# Altium integrated library Altium_WCAP-CSGP (rev19a).IntLib: 938 symbols (part 14 of 16)
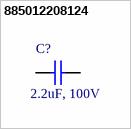
[diagram p40: symbol 885012208124]

## 885012208124
designator C?, comment 2.2uF, 100V
WCAP-CSGP General Purpose Ceramic Capacitors, size 1206, 2.2uF, +/-10%, 100VDC; Part Number: 885012208124; Isolation Resistance: >=0.05GOhm; Ceramic Type: X7R; Technical Reference: X7R1206225K100DFCT10000; ComponentLink1Description: Manufacturer; ComponentLink1URL: http://www.we-online.de; ComponentLink2Description: Datasheet; ComponentLink2URL: https://katalog.we-online.com/pbs/datasheet/885012208124.pdf; Operating Temperature: -55 to +125degC; Packaging: Tape and Reel; Publisher: Wurth Elektronik; Rated Voltage: 100VDC; Published Date: August 2019; Capacitance Tolerance: +/-10%; Dissipation Factor: =<5%; Height: 1.6mm +/-0.30mm; Mounting Technology: SMD; Size: 1206; Capacitance: 2.2uF
footprint WCAP-CSGP_1206_H=1.6mm
pins: 1, 2


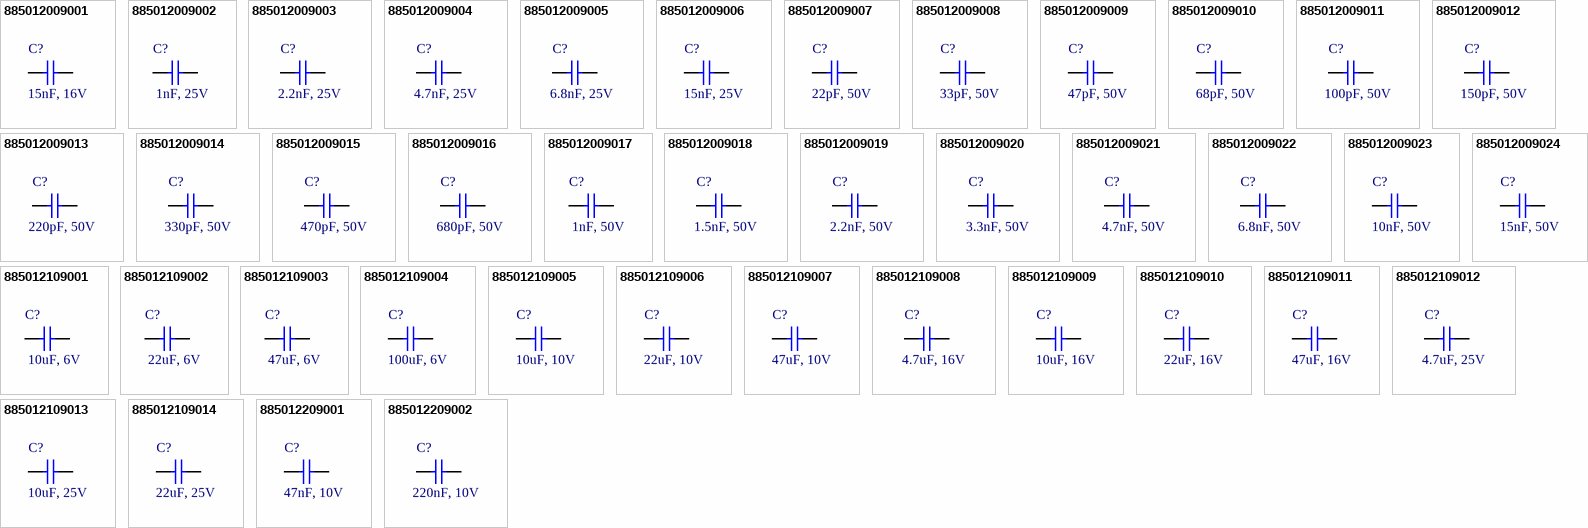
[diagram p23: symbols 885012009001 to 885012209002]

## 885012009001
designator C?, comment 15nF, 16V
WCAP-CSGP General Purpose Ceramic Capacitors, size 1210, 15nF, +/-5%, 16VDC; Part Number: 885012009001; Isolation Resistance: >=10GOhm; Ceramic Type: NP0; Dissipation Factor: Q>=1000; Technical Reference: NP01210153J016DFCT10000; ComponentLink1Description: Manufacturer; ComponentLink1URL: http://www.we-online.de; ComponentLink2Description: Datasheet; ComponentLink2URL: https://katalog.we-online.com/pbs/datasheet/885012009001.pdf; Operating Temperature: -55 to +125degC; Packaging: Tape and Reel; Publisher: Wurth Elektronik; Rated Voltage: 16VDC; Published Date: August 2019; Capacitance Tolerance: +/-5%; Height: 0.95mm +/-0.10mm; Mounting Technology: SMD; Size: 1210; Capacitance: 15nF
footprint WCAP-CSGP_1210_H=0.95mm
pins: 1, 2

## 885012009002
designator C?, comment 1nF, 25V
WCAP-CSGP General Purpose Ceramic Capacitors, size 1210, 1nF, +/-5%, 25VDC; Part Number: 885012009002; Isolation Resistance: >=10GOhm; Ceramic Type: NP0; Dissipation Factor: Q>=1000; Technical Reference: NP01210102J025DFCT10000; ComponentLink1Description: Manufacturer; ComponentLink1URL: http://www.we-online.de; ComponentLink2Description: Datasheet; ComponentLink2URL: https://katalog.we-online.com/pbs/datasheet/885012009002.pdf; Operating Temperature: -55 to +125degC; Packaging: Tape and Reel; Publisher: Wurth Elektronik; Rated Voltage: 25VDC; Published Date: August 2019; Capacitance Tolerance: +/-5%; Height: 0.95mm +/-0.10mm; Mounting Technology: SMD; Size: 1210; Capacitance: 1nF
footprint WCAP-CSGP_1210_H=0.95mm
pins: 1, 2

## 885012009003
designator C?, comment 2.2nF, 25V
WCAP-CSGP General Purpose Ceramic Capacitors, size 1210, 2.2nF, +/-5%, 25VDC; Part Number: 885012009003; Isolation Resistance: >=10GOhm; Ceramic Type: NP0; Dissipation Factor: Q>=1000; Technical Reference: NP01210222J025DFCT10000; ComponentLink1Description: Manufacturer; ComponentLink1URL: http://www.we-online.de; ComponentLink2Description: Datasheet; ComponentLink2URL: https://katalog.we-online.com/pbs/datasheet/885012009003.pdf; Operating Temperature: -55 to +125degC; Packaging: Tape and Reel; Publisher: Wurth Elektronik; Rated Voltage: 25VDC; Published Date: August 2019; Capacitance Tolerance: +/-5%; Height: 0.95mm +/-0.10mm; Mounting Technology: SMD; Size: 1210; Capacitance: 2.2nF
footprint WCAP-CSGP_1210_H=0.95mm
pins: 1, 2

## 885012009004
designator C?, comment 4.7nF, 25V
WCAP-CSGP General Purpose Ceramic Capacitors, size 1210, 4.7nF, +/-5%, 25VDC; Part Number: 885012009004; Isolation Resistance: >=10GOhm; Ceramic Type: NP0; Dissipation Factor: Q>=1000; Technical Reference: NP01210472J025DFCT10000; ComponentLink1Description: Manufacturer; ComponentLink1URL: http://www.we-online.de; ComponentLink2Description: Datasheet; ComponentLink2URL: https://katalog.we-online.com/pbs/datasheet/885012009004.pdf; Operating Temperature: -55 to +125degC; Packaging: Tape and Reel; Publisher: Wurth Elektronik; Rated Voltage: 25VDC; Published Date: August 2019; Capacitance Tolerance: +/-5%; Height: 0.95mm +/-0.10mm; Mounting Technology: SMD; Size: 1210; Capacitance: 4.7nF
footprint WCAP-CSGP_1210_H=0.95mm
pins: 1, 2

## 885012009005
designator C?, comment 6.8nF, 25V
WCAP-CSGP General Purpose Ceramic Capacitors, size 1210, 6.8nF, +/-5%, 25VDC; Part Number: 885012009005; Isolation Resistance: >=10GOhm; Ceramic Type: NP0; Dissipation Factor: Q>=1000; Technical Reference: NP01210682J025DFCT10000; ComponentLink1Description: Manufacturer; ComponentLink1URL: http://www.we-online.de; ComponentLink2Description: Datasheet; ComponentLink2URL: https://katalog.we-online.com/pbs/datasheet/885012009005.pdf; Operating Temperature: -55 to +125degC; Packaging: Tape and Reel; Publisher: Wurth Elektronik; Rated Voltage: 25VDC; Published Date: August 2019; Capacitance Tolerance: +/-5%; Height: 0.95mm +/-0.10mm; Mounting Technology: SMD; Size: 1210; Capacitance: 6.8nF
footprint WCAP-CSGP_1210_H=0.95mm
pins: 1, 2

## 885012009006
designator C?, comment 15nF, 25V
WCAP-CSGP General Purpose Ceramic Capacitors, size 1210, 15nF, +/-5%, 25VDC; Part Number: 885012009006; Isolation Resistance: >=10GOhm; Ceramic Type: NP0; Dissipation Factor: Q>=1000; Technical Reference: NP01210153J025DFCT10000; ComponentLink1Description: Manufacturer; ComponentLink1URL: http://www.we-online.de; ComponentLink2Description: Datasheet; ComponentLink2URL: https://katalog.we-online.com/pbs/datasheet/885012009006.pdf; Operating Temperature: -55 to +125degC; Packaging: Tape and Reel; Publisher: Wurth Elektronik; Rated Voltage: 25VDC; Published Date: August 2019; Capacitance Tolerance: +/-5%; Height: 1.25mm +/-0.10mm; Mounting Technology: SMD; Size: 1210; Capacitance: 15nF
footprint WCAP-CSGP_1210_H=1.25mm
pins: 1, 2

## 885012009007
designator C?, comment 22pF, 50V
WCAP-CSGP General Purpose Ceramic Capacitors, size 1210, 22pF, +/-5%, 50VDC; Part Number: 885012009007; Isolation Resistance: >=10GOhm; Ceramic Type: NP0; Dissipation Factor: Q>=400+20C; Technical Reference: NP01210220J050DFCT10000; ComponentLink1Description: Manufacturer; ComponentLink1URL: http://www.we-online.de; ComponentLink2Description: Datasheet; ComponentLink2URL: https://katalog.we-online.com/pbs/datasheet/885012009007.pdf; Operating Temperature: -55 to +125degC; Packaging: Tape and Reel; Publisher: Wurth Elektronik; Rated Voltage: 50VDC; Published Date: August 2019; Capacitance Tolerance: +/-5%; Height: 0.95mm +/-0.10mm; Mounting Technology: SMD; Size: 1210; Capacitance: 22pF
footprint WCAP-CSGP_1210_H=0.95mm
pins: 1, 2

## 885012009008
designator C?, comment 33pF, 50V
WCAP-CSGP General Purpose Ceramic Capacitors, size 1210, 33pF, +/-5%, 50VDC; Part Number: 885012009008; Isolation Resistance: >=10GOhm; Ceramic Type: NP0; Dissipation Factor: Q>=1000; Technical Reference: NP01210330J050DFCT10000; ComponentLink1Description: Manufacturer; ComponentLink1URL: http://www.we-online.de; ComponentLink2Description: Datasheet; ComponentLink2URL: https://katalog.we-online.com/pbs/datasheet/885012009008.pdf; Operating Temperature: -55 to +125degC; Packaging: Tape and Reel; Publisher: Wurth Elektronik; Rated Voltage: 50VDC; Published Date: August 2019; Capacitance Tolerance: +/-5%; Height: 0.95mm +/-0.10mm; Mounting Technology: SMD; Size: 1210; Capacitance: 33pF
footprint WCAP-CSGP_1210_H=0.95mm
pins: 1, 2

## 885012009009
designator C?, comment 47pF, 50V
WCAP-CSGP General Purpose Ceramic Capacitors, size 1210, 47pF, +/-5%, 50VDC; Part Number: 885012009009; Isolation Resistance: >=10GOhm; Ceramic Type: NP0; Dissipation Factor: Q>=1000; Technical Reference: NP01210470J050DFCT10000; ComponentLink1Description: Manufacturer; ComponentLink1URL: http://www.we-online.de; ComponentLink2Description: Datasheet; ComponentLink2URL: https://katalog.we-online.com/pbs/datasheet/885012009009.pdf; Operating Temperature: -55 to +125degC; Packaging: Tape and Reel; Publisher: Wurth Elektronik; Rated Voltage: 50VDC; Published Date: August 2019; Capacitance Tolerance: +/-5%; Height: 0.95mm +/-0.10mm; Mounting Technology: SMD; Size: 1210; Capacitance: 47pF
footprint WCAP-CSGP_1210_H=0.95mm
pins: 1, 2

## 885012009010
designator C?, comment 68pF, 50V
WCAP-CSGP General Purpose Ceramic Capacitors, size 1210, 68pF, +/-5%, 50VDC; Part Number: 885012009010; Isolation Resistance: >=10GOhm; Ceramic Type: NP0; Dissipation Factor: Q>=1000; Technical Reference: NP01210680J050DFCT10000; ComponentLink1Description: Manufacturer; ComponentLink1URL: http://www.we-online.de; ComponentLink2Description: Datasheet; ComponentLink2URL: https://katalog.we-online.com/pbs/datasheet/885012009010.pdf; Operating Temperature: -55 to +125degC; Packaging: Tape and Reel; Publisher: Wurth Elektronik; Rated Voltage: 50VDC; Published Date: August 2019; Capacitance Tolerance: +/-5%; Height: 0.95mm +/-0.10mm; Mounting Technology: SMD; Size: 1210; Capacitance: 68pF
footprint WCAP-CSGP_1210_H=0.95mm
pins: 1, 2

## 885012009011
designator C?, comment 100pF, 50V
WCAP-CSGP General Purpose Ceramic Capacitors, size 1210, 100pF, +/-5%, 50VDC; Part Number: 885012009011; Isolation Resistance: >=10GOhm; Ceramic Type: NP0; Dissipation Factor: Q>=1000; Technical Reference: NP01210101J050DFCT10000; ComponentLink1Description: Manufacturer; ComponentLink1URL: http://www.we-online.de; ComponentLink2Description: Datasheet; ComponentLink2URL: https://katalog.we-online.com/pbs/datasheet/885012009011.pdf; Operating Temperature: -55 to +125degC; Packaging: Tape and Reel; Publisher: Wurth Elektronik; Rated Voltage: 50VDC; Published Date: August 2019; Capacitance Tolerance: +/-5%; Height: 0.95mm +/-0.10mm; Mounting Technology: SMD; Size: 1210; Capacitance: 100pF
footprint WCAP-CSGP_1210_H=0.95mm
pins: 1, 2

## 885012009012
designator C?, comment 150pF, 50V
WCAP-CSGP General Purpose Ceramic Capacitors, size 1210, 150pF, +/-5%, 50VDC; Part Number: 885012009012; Isolation Resistance: >=10GOhm; Ceramic Type: NP0; Dissipation Factor: Q>=1000; Technical Reference: NP01210151J050DFCT10000; ComponentLink1Description: Manufacturer; ComponentLink1URL: http://www.we-online.de; ComponentLink2Description: Datasheet; ComponentLink2URL: https://katalog.we-online.com/pbs/datasheet/885012009012.pdf; Operating Temperature: -55 to +125degC; Packaging: Tape and Reel; Publisher: Wurth Elektronik; Rated Voltage: 50VDC; Published Date: August 2019; Capacitance Tolerance: +/-5%; Height: 0.95mm +/-0.10mm; Mounting Technology: SMD; Size: 1210; Capacitance: 150pF
footprint WCAP-CSGP_1210_H=0.95mm
pins: 1, 2

## 885012009013
designator C?, comment 220pF, 50V
WCAP-CSGP General Purpose Ceramic Capacitors, size 1210, 220pF, +/-5%, 50VDC; Part Number: 885012009013; Isolation Resistance: >=10GOhm; Ceramic Type: NP0; Dissipation Factor: Q>=1000; Technical Reference: NP01210221J050DFCT10000; ComponentLink1Description: Manufacturer; ComponentLink1URL: http://www.we-online.de; ComponentLink2Description: Datasheet; ComponentLink2URL: https://katalog.we-online.com/pbs/datasheet/885012009013.pdf; Operating Temperature: -55 to +125degC; Packaging: Tape and Reel; Publisher: Wurth Elektronik; Rated Voltage: 50VDC; Published Date: August 2019; Capacitance Tolerance: +/-5%; Height: 0.95mm +/-0.10mm; Mounting Technology: SMD; Size: 1210; Capacitance: 220pF
footprint WCAP-CSGP_1210_H=0.95mm
pins: 1, 2

## 885012009014
designator C?, comment 330pF, 50V
WCAP-CSGP General Purpose Ceramic Capacitors, size 1210, 330pF, +/-5%, 50VDC; Part Number: 885012009014; Isolation Resistance: >=10GOhm; Ceramic Type: NP0; Dissipation Factor: Q>=1000; Technical Reference: NP01210331J050DFCT10000; ComponentLink1Description: Manufacturer; ComponentLink1URL: http://www.we-online.de; ComponentLink2Description: Datasheet; ComponentLink2URL: https://katalog.we-online.com/pbs/datasheet/885012009014.pdf; Operating Temperature: -55 to +125degC; Packaging: Tape and Reel; Publisher: Wurth Elektronik; Rated Voltage: 50VDC; Published Date: August 2019; Capacitance Tolerance: +/-5%; Height: 0.95mm +/-0.10mm; Mounting Technology: SMD; Size: 1210; Capacitance: 330pF
footprint WCAP-CSGP_1210_H=0.95mm
pins: 1, 2

## 885012009015
designator C?, comment 470pF, 50V
WCAP-CSGP General Purpose Ceramic Capacitors, size 1210, 470pF, +/-5%, 50VDC; Part Number: 885012009015; Isolation Resistance: >=10GOhm; Ceramic Type: NP0; Dissipation Factor: Q>=1000; Technical Reference: NP01210471J050DFCT10000; ComponentLink1Description: Manufacturer; ComponentLink1URL: http://www.we-online.de; ComponentLink2Description: Datasheet; ComponentLink2URL: https://katalog.we-online.com/pbs/datasheet/885012009015.pdf; Operating Temperature: -55 to +125degC; Packaging: Tape and Reel; Publisher: Wurth Elektronik; Rated Voltage: 50VDC; Published Date: August 2019; Capacitance Tolerance: +/-5%; Height: 0.95mm +/-0.10mm; Mounting Technology: SMD; Size: 1210; Capacitance: 470pF
footprint WCAP-CSGP_1210_H=0.95mm
pins: 1, 2

## 885012009016
designator C?, comment 680pF, 50V
WCAP-CSGP General Purpose Ceramic Capacitors, size 1210, 680pF, +/-5%, 50VDC; Part Number: 885012009016; Isolation Resistance: >=10GOhm; Ceramic Type: NP0; Dissipation Factor: Q>=1000; Technical Reference: NP01210681J050DFCT10000; ComponentLink1Description: Manufacturer; ComponentLink1URL: http://www.we-online.de; ComponentLink2Description: Datasheet; ComponentLink2URL: https://katalog.we-online.com/pbs/datasheet/885012009016.pdf; Operating Temperature: -55 to +125degC; Packaging: Tape and Reel; Publisher: Wurth Elektronik; Rated Voltage: 50VDC; Published Date: August 2019; Capacitance Tolerance: +/-5%; Height: 0.95mm +/-0.10mm; Mounting Technology: SMD; Size: 1210; Capacitance: 680pF
footprint WCAP-CSGP_1210_H=0.95mm
pins: 1, 2

## 885012009017
designator C?, comment 1nF, 50V
WCAP-CSGP General Purpose Ceramic Capacitors, size 1210, 1nF, +/-5%, 50VDC; Part Number: 885012009017; Isolation Resistance: >=10GOhm; Ceramic Type: NP0; Dissipation Factor: Q>=1000; Technical Reference: NP01210102J050DFCT10000; ComponentLink1Description: Manufacturer; ComponentLink1URL: http://www.we-online.de; ComponentLink2Description: Datasheet; ComponentLink2URL: https://katalog.we-online.com/pbs/datasheet/885012009017.pdf; Operating Temperature: -55 to +125degC; Packaging: Tape and Reel; Publisher: Wurth Elektronik; Rated Voltage: 50VDC; Published Date: August 2019; Capacitance Tolerance: +/-5%; Height: 0.95mm +/-0.10mm; Mounting Technology: SMD; Size: 1210; Capacitance: 1nF
footprint WCAP-CSGP_1210_H=0.95mm
pins: 1, 2

## 885012009018
designator C?, comment 1.5nF, 50V
WCAP-CSGP General Purpose Ceramic Capacitors, size 1210, 1.5nF, +/-5%, 50VDC; Part Number: 885012009018; Isolation Resistance: >=10GOhm; Ceramic Type: NP0; Dissipation Factor: Q>=1000; Technical Reference: NP01210152J050DFCT10000; ComponentLink1Description: Manufacturer; ComponentLink1URL: http://www.we-online.de; ComponentLink2Description: Datasheet; ComponentLink2URL: https://katalog.we-online.com/pbs/datasheet/885012009018.pdf; Operating Temperature: -55 to +125degC; Packaging: Tape and Reel; Publisher: Wurth Elektronik; Rated Voltage: 50VDC; Published Date: August 2019; Capacitance Tolerance: +/-5%; Height: 0.95mm +/-0.10mm; Mounting Technology: SMD; Size: 1210; Capacitance: 1.5nF
footprint WCAP-CSGP_1210_H=0.95mm
pins: 1, 2

## 885012009019
designator C?, comment 2.2nF, 50V
WCAP-CSGP General Purpose Ceramic Capacitors, size 1210, 2.2nF, +/-5%, 50VDC; Part Number: 885012009019; Isolation Resistance: >=10GOhm; Ceramic Type: NP0; Dissipation Factor: Q>=1000; Technical Reference: NP01210222J050DFCT10000; ComponentLink1Description: Manufacturer; ComponentLink1URL: http://www.we-online.de; ComponentLink2Description: Datasheet; ComponentLink2URL: https://katalog.we-online.com/pbs/datasheet/885012009019.pdf; Operating Temperature: -55 to +125degC; Packaging: Tape and Reel; Publisher: Wurth Elektronik; Rated Voltage: 50VDC; Published Date: August 2019; Capacitance Tolerance: +/-5%; Height: 0.95mm +/-0.10mm; Mounting Technology: SMD; Size: 1210; Capacitance: 2.2nF
footprint WCAP-CSGP_1210_H=0.95mm
pins: 1, 2

## 885012009020
designator C?, comment 3.3nF, 50V
WCAP-CSGP General Purpose Ceramic Capacitors, size 1210, 3.3nF, +/-5%, 50VDC; Part Number: 885012009020; Isolation Resistance: >=10GOhm; Ceramic Type: NP0; Dissipation Factor: Q>=1000; Technical Reference: NP01210332J050DFCT10000; ComponentLink1Description: Manufacturer; ComponentLink1URL: http://www.we-online.de; ComponentLink2Description: Datasheet; ComponentLink2URL: https://katalog.we-online.com/pbs/datasheet/885012009020.pdf; Operating Temperature: -55 to +125degC; Packaging: Tape and Reel; Publisher: Wurth Elektronik; Rated Voltage: 50VDC; Published Date: August 2019; Capacitance Tolerance: +/-5%; Height: 0.95mm +/-0.10mm; Mounting Technology: SMD; Size: 1210; Capacitance: 3.3nF
footprint WCAP-CSGP_1210_H=0.95mm
pins: 1, 2

## 885012009021
designator C?, comment 4.7nF, 50V
WCAP-CSGP General Purpose Ceramic Capacitors, size 1210, 4.7nF, +/-5%, 50VDC; Part Number: 885012009021; Isolation Resistance: >=10GOhm; Ceramic Type: NP0; Dissipation Factor: Q>=1000; Technical Reference: NP01210472J050DFCT10000; ComponentLink1Description: Manufacturer; ComponentLink1URL: http://www.we-online.de; ComponentLink2Description: Datasheet; ComponentLink2URL: https://katalog.we-online.com/pbs/datasheet/885012009021.pdf; Operating Temperature: -55 to +125degC; Packaging: Tape and Reel; Publisher: Wurth Elektronik; Rated Voltage: 50VDC; Published Date: August 2019; Capacitance Tolerance: +/-5%; Height: 0.95mm +/-0.10mm; Mounting Technology: SMD; Size: 1210; Capacitance: 4.7nF
footprint WCAP-CSGP_1210_H=0.95mm
pins: 1, 2

## 885012009022
designator C?, comment 6.8nF, 50V
WCAP-CSGP General Purpose Ceramic Capacitors, size 1210, 6.8nF, +/-5%, 50VDC; Part Number: 885012009022; Isolation Resistance: >=10GOhm; Ceramic Type: NP0; Dissipation Factor: Q>=1000; Technical Reference: NP01210682J050DFCT10000; ComponentLink1Description: Manufacturer; ComponentLink1URL: http://www.we-online.de; ComponentLink2Description: Datasheet; ComponentLink2URL: https://katalog.we-online.com/pbs/datasheet/885012009022.pdf; Operating Temperature: -55 to +125degC; Packaging: Tape and Reel; Publisher: Wurth Elektronik; Rated Voltage: 50VDC; Published Date: August 2019; Capacitance Tolerance: +/-5%; Height: 0.95mm +/-0.10mm; Mounting Technology: SMD; Size: 1210; Capacitance: 6.8nF
footprint WCAP-CSGP_1210_H=0.95mm
pins: 1, 2

## 885012009023
designator C?, comment 10nF, 50V
WCAP-CSGP General Purpose Ceramic Capacitors, size 1210, 10nF, +/-5%, 50VDC; Part Number: 885012009023; Isolation Resistance: >=10GOhm; Ceramic Type: NP0; Dissipation Factor: Q>=1000; Technical Reference: NP01210103J050DFCT10000; ComponentLink1Description: Manufacturer; ComponentLink1URL: http://www.we-online.de; ComponentLink2Description: Datasheet; ComponentLink2URL: https://katalog.we-online.com/pbs/datasheet/885012009023.pdf; Operating Temperature: -55 to +125degC; Packaging: Tape and Reel; Publisher: Wurth Elektronik; Rated Voltage: 50VDC; Published Date: August 2019; Capacitance Tolerance: +/-5%; Height: 0.95mm +/-0.10mm; Mounting Technology: SMD; Size: 1210; Capacitance: 10nF
footprint WCAP-CSGP_1210_H=0.95mm
pins: 1, 2

## 885012009024
designator C?, comment 15nF, 50V
WCAP-CSGP General Purpose Ceramic Capacitors, size 1210, 15nF, +/-5%, 50VDC; Part Number: 885012009024; Isolation Resistance: >=10GOhm; Ceramic Type: NP0; Dissipation Factor: Q>=1000; Technical Reference: NP01210153J050DFCT10000; ComponentLink1Description: Manufacturer; ComponentLink1URL: http://www.we-online.de; ComponentLink2Description: Datasheet; ComponentLink2URL: https://katalog.we-online.com/pbs/datasheet/885012009024.pdf; Operating Temperature: -55 to +125degC; Packaging: Tape and Reel; Publisher: Wurth Elektronik; Rated Voltage: 50VDC; Published Date: August 2019; Capacitance Tolerance: +/-5%; Height: 1.25mm +/-0.10mm; Mounting Technology: SMD; Size: 1210; Capacitance: 15nF
footprint WCAP-CSGP_1210_H=1.25mm
pins: 1, 2

## 885012109001
designator C?, comment 10uF, 6V
WCAP-CSGP General Purpose Ceramic Capacitors, size 1210, 10uF, +/-20%, 6VDC; Part Number: 885012109001; Isolation Resistance: >=0.01GOhm; Ceramic Type: X5R; Technical Reference: X5R1210106M6R3DFCT10000; ComponentLink1Description: Manufacturer; ComponentLink1URL: http://www.we-online.de; ComponentLink2Description: Datasheet; ComponentLink2URL: https://katalog.we-online.com/pbs/datasheet/885012109001.pdf; Operating Temperature: -55 to +85degC; Packaging: Tape and Reel; Publisher: Wurth Elektronik; Rated Voltage: 6VDC; Published Date: August 2019; Capacitance Tolerance: +/-20%; Dissipation Factor: =<10%; Height: 2mm +/-0.20mm; Mounting Technology: SMD; Size: 1210; Capacitance: 10uF
footprint WCAP-CSGP_1210_H=2mm
pins: 1, 2

## 885012109002
designator C?, comment 22uF, 6V
WCAP-CSGP General Purpose Ceramic Capacitors, size 1210, 22uF, +/-20%, 6VDC; Part Number: 885012109002; Isolation Resistance: >=0.02GOhm; Ceramic Type: X5R; Technical Reference: X5R1210226M6R3DFCT10000; ComponentLink1Description: Manufacturer; ComponentLink1URL: http://www.we-online.de; ComponentLink2Description: Datasheet; ComponentLink2URL: https://katalog.we-online.com/pbs/datasheet/885012109002.pdf; Operating Temperature: -55 to +85degC; Packaging: Tape and Reel; Publisher: Wurth Elektronik; Rated Voltage: 6VDC; Published Date: August 2019; Capacitance Tolerance: +/-20%; Dissipation Factor: =<5%; Height: 2.5mm +/-0.20mm; Mounting Technology: SMD; Size: 1210; Capacitance: 22uF
footprint WCAP-CSGP_1210_H=2.5mm
pins: 1, 2

## 885012109003
designator C?, comment 47uF, 6V
WCAP-CSGP General Purpose Ceramic Capacitors, size 1210, 47uF, +/-20%, 6VDC; Part Number: 885012109003; Isolation Resistance: >=0.002GOhm; Ceramic Type: X5R; Technical Reference: X5R1210476M6R3DFCT10000; ComponentLink1Description: Manufacturer; ComponentLink1URL: http://www.we-online.de; ComponentLink2Description: Datasheet; ComponentLink2URL: https://katalog.we-online.com/pbs/datasheet/885012109003.pdf; Operating Temperature: -55 to +85degC; Packaging: Tape and Reel; Publisher: Wurth Elektronik; Rated Voltage: 6VDC; Published Date: August 2019; Capacitance Tolerance: +/-20%; Dissipation Factor: =<10%; Height: 2.5mm +/-0.20mm; Mounting Technology: SMD; Size: 1210; Capacitance: 47uF
footprint WCAP-CSGP_1210_H=2.5mm
pins: 1, 2

## 885012109004
designator C?, comment 100uF, 6V
WCAP-CSGP General Purpose Ceramic Capacitors, size 1210, 100uF, +/-20%, 6VDC; Part Number: 885012109004; Isolation Resistance: >=0.001GOhm; Ceramic Type: X5R; Technical Reference: X5R1210107M6R3DFCT10000; ComponentLink1Description: Manufacturer; ComponentLink1URL: http://www.we-online.de; ComponentLink2Description: Datasheet; ComponentLink2URL: https://katalog.we-online.com/pbs/datasheet/885012109004.pdf; Operating Temperature: -55 to +85degC; Packaging: Tape and Reel; Publisher: Wurth Elektronik; Rated Voltage: 6VDC; Published Date: August 2019; Capacitance Tolerance: +/-20%; Dissipation Factor: =<10%; Height: 2.5mm +/-0.20mm; Mounting Technology: SMD; Size: 1210; Capacitance: 100uF
footprint WCAP-CSGP_1210_H=2.5mm
pins: 1, 2

## 885012109005
designator C?, comment 10uF, 10V
WCAP-CSGP General Purpose Ceramic Capacitors, size 1210, 10uF, +/-20%, 10VDC; Part Number: 885012109005; Isolation Resistance: >=0.05GOhm; Ceramic Type: X5R; Technical Reference: X5R1210106M010DFCT10000; ComponentLink1Description: Manufacturer; ComponentLink1URL: http://www.we-online.de; ComponentLink2Description: Datasheet; ComponentLink2URL: https://katalog.we-online.com/pbs/datasheet/885012109005.pdf; Operating Temperature: -55 to +85degC; Packaging: Tape and Reel; Publisher: Wurth Elektronik; Rated Voltage: 10VDC; Published Date: August 2019; Capacitance Tolerance: +/-20%; Dissipation Factor: =<5%; Height: 2mm +/-0.20mm; Mounting Technology: SMD; Size: 1210; Capacitance: 10uF
footprint WCAP-CSGP_1210_H=2mm
pins: 1, 2

## 885012109006
designator C?, comment 22uF, 10V
WCAP-CSGP General Purpose Ceramic Capacitors, size 1210, 22uF, +/-20%, 10VDC; Part Number: 885012109006; Isolation Resistance: >=0.02GOhm; Ceramic Type: X5R; Technical Reference: X5R1210226M010DFCT10000; ComponentLink1Description: Manufacturer; ComponentLink1URL: http://www.we-online.de; ComponentLink2Description: Datasheet; ComponentLink2URL: https://katalog.we-online.com/pbs/datasheet/885012109006.pdf; Operating Temperature: -55 to +85degC; Packaging: Tape and Reel; Publisher: Wurth Elektronik; Rated Voltage: 10VDC; Published Date: August 2019; Capacitance Tolerance: +/-20%; Dissipation Factor: =<5%; Height: 2.5mm +/-0.20mm; Mounting Technology: SMD; Size: 1210; Capacitance: 22uF
footprint WCAP-CSGP_1210_H=2.5mm
pins: 1, 2

## 885012109007
designator C?, comment 47uF, 10V
WCAP-CSGP General Purpose Ceramic Capacitors, size 1210, 47uF, +/-20%, 10VDC; Part Number: 885012109007; Isolation Resistance: >=0.002GOhm; Ceramic Type: X5R; Technical Reference: X5R1210476M010DFCT10000; ComponentLink1Description: Manufacturer; ComponentLink1URL: http://www.we-online.de; ComponentLink2Description: Datasheet; ComponentLink2URL: https://katalog.we-online.com/pbs/datasheet/885012109007.pdf; Operating Temperature: -55 to +85degC; Packaging: Tape and Reel; Publisher: Wurth Elektronik; Rated Voltage: 10VDC; Published Date: August 2019; Capacitance Tolerance: +/-20%; Dissipation Factor: =<10%; Height: 2.5mm +/-0.20mm; Mounting Technology: SMD; Size: 1210; Capacitance: 47uF
footprint WCAP-CSGP_1210_H=2.5mm
pins: 1, 2

## 885012109008
designator C?, comment 4.7uF, 16V
WCAP-CSGP General Purpose Ceramic Capacitors, size 1210, 4.7uF, +/-20%, 16VDC; Part Number: 885012109008; Isolation Resistance: >=0.1GOhm; Ceramic Type: X5R; Technical Reference: X5R1210475M016DFCT10000; ComponentLink1Description: Manufacturer; ComponentLink1URL: http://www.we-online.de; ComponentLink2Description: Datasheet; ComponentLink2URL: https://katalog.we-online.com/pbs/datasheet/885012109008.pdf; Operating Temperature: -55 to +85degC; Packaging: Tape and Reel; Publisher: Wurth Elektronik; Rated Voltage: 16VDC; Published Date: August 2019; Capacitance Tolerance: +/-20%; Dissipation Factor: =<5%; Height: 2mm +/-0.20mm; Mounting Technology: SMD; Size: 1210; Capacitance: 4.7uF
footprint WCAP-CSGP_1210_H=2mm
pins: 1, 2

## 885012109009
designator C?, comment 10uF, 16V
WCAP-CSGP General Purpose Ceramic Capacitors, size 1210, 10uF, +/-20%, 16VDC; Part Number: 885012109009; Isolation Resistance: >=0.05GOhm; Ceramic Type: X5R; Technical Reference: X5R1210106M016DFCT10000; ComponentLink1Description: Manufacturer; ComponentLink1URL: http://www.we-online.de; ComponentLink2Description: Datasheet; ComponentLink2URL: https://katalog.we-online.com/pbs/datasheet/885012109009.pdf; Operating Temperature: -55 to +85degC; Packaging: Tape and Reel; Publisher: Wurth Elektronik; Rated Voltage: 16VDC; Published Date: August 2019; Capacitance Tolerance: +/-20%; Dissipation Factor: =<5%; Height: 2mm +/-0.20mm; Mounting Technology: SMD; Size: 1210; Capacitance: 10uF
footprint WCAP-CSGP_1210_H=2mm
pins: 1, 2

## 885012109010
designator C?, comment 22uF, 16V
WCAP-CSGP General Purpose Ceramic Capacitors, size 1210, 22uF, +/-20%, 16VDC; Part Number: 885012109010; Isolation Resistance: >=0.02GOhm; Ceramic Type: X5R; Technical Reference: X5R1210226M016DFCT10000; ComponentLink1Description: Manufacturer; ComponentLink1URL: http://www.we-online.de; ComponentLink2Description: Datasheet; ComponentLink2URL: https://katalog.we-online.com/pbs/datasheet/885012109010.pdf; Operating Temperature: -55 to +85degC; Packaging: Tape and Reel; Publisher: Wurth Elektronik; Rated Voltage: 16VDC; Published Date: August 2019; Capacitance Tolerance: +/-20%; Dissipation Factor: =<5%; Height: 2.5mm +/-0.20mm; Mounting Technology: SMD; Size: 1210; Capacitance: 22uF
footprint WCAP-CSGP_1210_H=2.5mm
pins: 1, 2

## 885012109011
designator C?, comment 47uF, 16V
WCAP-CSGP General Purpose Ceramic Capacitors, size 1210, 47uF, +/-20%, 16VDC; Part Number: 885012109011; Isolation Resistance: >=0.002GOhm; Ceramic Type: X5R; Technical Reference: X5R1210476M016DFCT10000; ComponentLink1Description: Manufacturer; ComponentLink1URL: http://www.we-online.de; ComponentLink2Description: Datasheet; ComponentLink2URL: https://katalog.we-online.com/pbs/datasheet/885012109011.pdf; Operating Temperature: -55 to +85degC; Packaging: Tape and Reel; Publisher: Wurth Elektronik; Rated Voltage: 16VDC; Published Date: August 2019; Capacitance Tolerance: +/-20%; Dissipation Factor: =<10%; Height: 2.5mm +/-0.20mm; Mounting Technology: SMD; Size: 1210; Capacitance: 47uF
footprint WCAP-CSGP_1210_H=2.5mm
pins: 1, 2

## 885012109012
designator C?, comment 4.7uF, 25V
WCAP-CSGP General Purpose Ceramic Capacitors, size 1210, 4.7uF, +/-20%, 25VDC; Part Number: 885012109012; Isolation Resistance: >=0.1GOhm; Ceramic Type: X5R; Technical Reference: X5R1210475M025DFCT10000; ComponentLink1Description: Manufacturer; ComponentLink1URL: http://www.we-online.de; ComponentLink2Description: Datasheet; ComponentLink2URL: https://katalog.we-online.com/pbs/datasheet/885012109012.pdf; Operating Temperature: -55 to +85degC; Packaging: Tape and Reel; Publisher: Wurth Elektronik; Rated Voltage: 25VDC; Published Date: August 2019; Capacitance Tolerance: +/-20%; Dissipation Factor: =<3.5%; Height: 2mm +/-0.20mm; Mounting Technology: SMD; Size: 1210; Capacitance: 4.7uF
footprint WCAP-CSGP_1210_H=2mm
pins: 1, 2

## 885012109013
designator C?, comment 10uF, 25V
WCAP-CSGP General Purpose Ceramic Capacitors, size 1210, 10uF, +/-20%, 25VDC; Part Number: 885012109013; Isolation Resistance: >=0.01GOhm; Ceramic Type: X5R; Technical Reference: X5R1210106M025DFCT10000; ComponentLink1Description: Manufacturer; ComponentLink1URL: http://www.we-online.de; ComponentLink2Description: Datasheet; ComponentLink2URL: https://katalog.we-online.com/pbs/datasheet/885012109013.pdf; Operating Temperature: -55 to +85degC; Packaging: Tape and Reel; Publisher: Wurth Elektronik; Rated Voltage: 25VDC; Published Date: August 2019; Capacitance Tolerance: +/-20%; Dissipation Factor: =<10%; Height: 2mm +/-0.20mm; Mounting Technology: SMD; Size: 1210; Capacitance: 10uF
footprint WCAP-CSGP_1210_H=2mm
pins: 1, 2

## 885012109014
designator C?, comment 22uF, 25V
WCAP-CSGP General Purpose Ceramic Capacitors, size 1210, 22uF, +/-20%, 25VDC; Part Number: 885012109014; Isolation Resistance: >=0.005GOhm; Ceramic Type: X5R; Technical Reference: X5R1210226M025DFCT10000; ComponentLink1Description: Manufacturer; ComponentLink1URL: http://www.we-online.de; ComponentLink2Description: Datasheet; ComponentLink2URL: https://katalog.we-online.com/pbs/datasheet/885012109014.pdf; Operating Temperature: -55 to +85degC; Packaging: Tape and Reel; Publisher: Wurth Elektronik; Rated Voltage: 25VDC; Published Date: August 2019; Capacitance Tolerance: +/-20%; Dissipation Factor: =<5%; Height: 2.5mm +/-0.20mm; Mounting Technology: SMD; Size: 1210; Capacitance: 22uF
footprint WCAP-CSGP_1210_H=2.5mm
pins: 1, 2

## 885012209001
designator C?, comment 47nF, 10V
WCAP-CSGP General Purpose Ceramic Capacitors, size 1210, 47nF, +/-10%, 10VDC; Part Number: 885012209001; Isolation Resistance: >=10GOhm; Ceramic Type: X7R; Technical Reference: X7R1210473K010DFCT10000; ComponentLink1Description: Manufacturer; ComponentLink1URL: http://www.we-online.de; ComponentLink2Description: Datasheet; ComponentLink2URL: https://katalog.we-online.com/pbs/datasheet/885012209001.pdf; Operating Temperature: -55 to +125degC; Packaging: Tape and Reel; Publisher: Wurth Elektronik; Rated Voltage: 10VDC; Published Date: August 2019; Capacitance Tolerance: +/-10%; Dissipation Factor: =<5%; Height: 0.95mm +/-0.10mm; Mounting Technology: SMD; Size: 1210; Capacitance: 47nF
footprint WCAP-CSGP_1210_H=0.95mm
pins: 1, 2

## 885012209002
designator C?, comment 220nF, 10V
WCAP-CSGP General Purpose Ceramic Capacitors, size 1210, 220nF, +/-10%, 10VDC; Part Number: 885012209002; Isolation Resistance: >=2.3GOhm; Ceramic Type: X7R; Technical Reference: X7R1210224K010DFCT10000; ComponentLink1Description: Manufacturer; ComponentLink1URL: http://www.we-online.de; ComponentLink2Description: Datasheet; ComponentLink2URL: https://katalog.we-online.com/pbs/datasheet/885012209002.pdf; Operating Temperature: -55 to +125degC; Packaging: Tape and Reel; Publisher: Wurth Elektronik; Rated Voltage: 10VDC; Published Date: August 2019; Capacitance Tolerance: +/-10%; Dissipation Factor: =<5%; Height: 0.95mm +/-0.10mm; Mounting Technology: SMD; Size: 1210; Capacitance: 220nF
footprint WCAP-CSGP_1210_H=0.95mm
pins: 1, 2

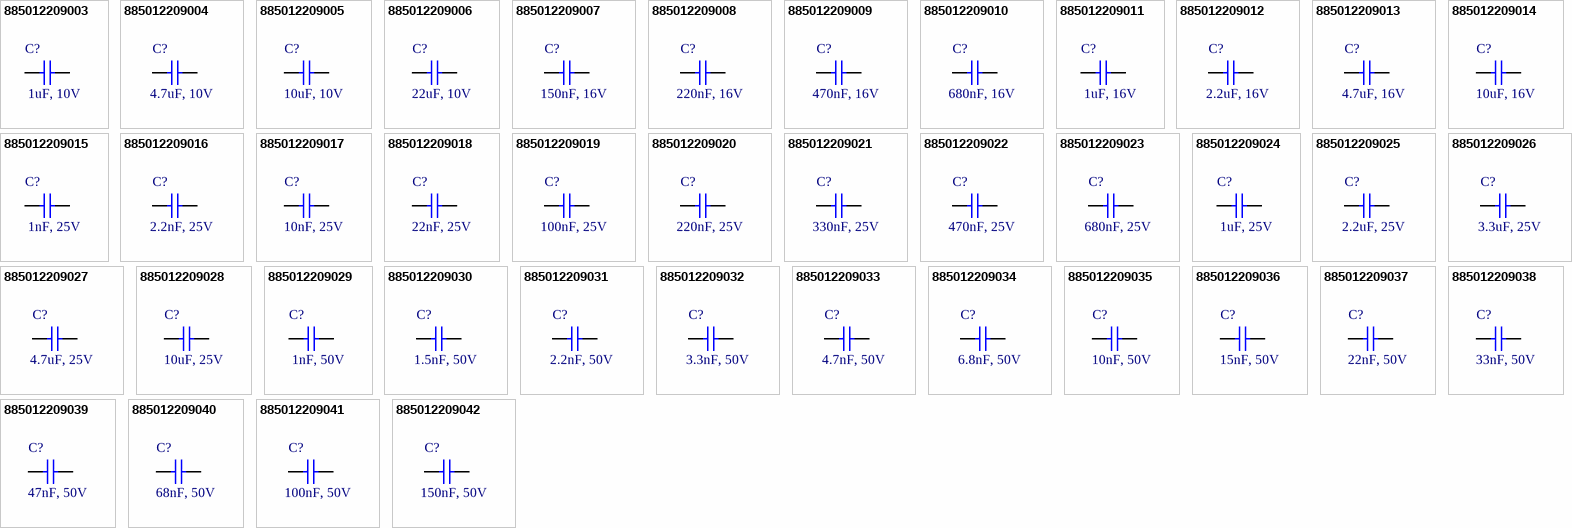
[diagram p24: symbols 885012209003 to 885012209042]

## 885012209003
designator C?, comment 1uF, 10V
WCAP-CSGP General Purpose Ceramic Capacitors, size 1210, 1uF, +/-10%, 10VDC; Part Number: 885012209003; Isolation Resistance: >=0.5GOhm; Ceramic Type: X7R; Technical Reference: X7R1210105K010DFCT10000; ComponentLink1Description: Manufacturer; ComponentLink1URL: http://www.we-online.de; ComponentLink2Description: Datasheet; ComponentLink2URL: https://katalog.we-online.com/pbs/datasheet/885012209003.pdf; Operating Temperature: -55 to +125degC; Packaging: Tape and Reel; Publisher: Wurth Elektronik; Rated Voltage: 10VDC; Published Date: August 2019; Capacitance Tolerance: +/-10%; Dissipation Factor: =<5%; Height: 1.25mm +/-0.10mm; Mounting Technology: SMD; Size: 1210; Capacitance: 1uF
footprint WCAP-CSGP_1210_H=1.25mm
pins: 1, 2

## 885012209004
designator C?, comment 4.7uF, 10V
WCAP-CSGP General Purpose Ceramic Capacitors, size 1210, 4.7uF, +/-10%, 10VDC; Part Number: 885012209004; Isolation Resistance: >=0.1GOhm; Ceramic Type: X7R; Technical Reference: X7R1210475K010DFCT10000; ComponentLink1Description: Manufacturer; ComponentLink1URL: http://www.we-online.de; ComponentLink2Description: Datasheet; ComponentLink2URL: https://katalog.we-online.com/pbs/datasheet/885012209004.pdf; Operating Temperature: -55 to +125degC; Packaging: Tape and Reel; Publisher: Wurth Elektronik; Rated Voltage: 10VDC; Published Date: August 2019; Capacitance Tolerance: +/-10%; Dissipation Factor: =<5%; Height: 2mm +/-0.20mm; Mounting Technology: SMD; Size: 1210; Capacitance: 4.7uF
footprint WCAP-CSGP_1210_H=2mm
pins: 1, 2

## 885012209005
designator C?, comment 10uF, 10V
WCAP-CSGP General Purpose Ceramic Capacitors, size 1210, 10uF, +/-10%, 10VDC; Part Number: 885012209005; Isolation Resistance: >=0.1GOhm; Ceramic Type: X7R; Technical Reference: X7R1210106K010DFCT10000; ComponentLink1Description: Manufacturer; ComponentLink1URL: http://www.we-online.de; ComponentLink2Description: Datasheet; ComponentLink2URL: https://katalog.we-online.com/pbs/datasheet/885012209005.pdf; Operating Temperature: -55 to +125degC; Packaging: Tape and Reel; Publisher: Wurth Elektronik; Rated Voltage: 10VDC; Published Date: August 2019; Capacitance Tolerance: +/-10%; Dissipation Factor: =<5%; Height: 2mm +/-0.20mm; Mounting Technology: SMD; Size: 1210; Capacitance: 10uF
footprint WCAP-CSGP_1210_H=2mm
pins: 1, 2

## 885012209006
designator C?, comment 22uF, 10V
WCAP-CSGP General Purpose Ceramic Capacitors, size 1210, 22uF, +/-10%, 10VDC; Part Number: 885012209006; Isolation Resistance: >=0.02GOhm; Ceramic Type: X7R; Technical Reference: X7R1210226K010DFCT10000; ComponentLink1Description: Manufacturer; ComponentLink1URL: http://www.we-online.de; ComponentLink2Description: Datasheet; ComponentLink2URL: https://katalog.we-online.com/pbs/datasheet/885012209006.pdf; Operating Temperature: -55 to +125degC; Packaging: Tape and Reel; Publisher: Wurth Elektronik; Rated Voltage: 10VDC; Published Date: August 2019; Capacitance Tolerance: +/-10%; Dissipation Factor: =<5%; Height: 2.5mm +/-0.20mm; Mounting Technology: SMD; Size: 1210; Capacitance: 22uF
footprint WCAP-CSGP_1210_H=2.5mm
pins: 1, 2

## 885012209007
designator C?, comment 150nF, 16V
WCAP-CSGP General Purpose Ceramic Capacitors, size 1210, 150nF, +/-10%, 16VDC; Part Number: 885012209007; Isolation Resistance: >=3.3GOhm; Ceramic Type: X7R; Technical Reference: X7R1210154K016DFCT10000; ComponentLink1Description: Manufacturer; ComponentLink1URL: http://www.we-online.de; ComponentLink2Description: Datasheet; ComponentLink2URL: https://katalog.we-online.com/pbs/datasheet/885012209007.pdf; Operating Temperature: -55 to +125degC; Packaging: Tape and Reel; Publisher: Wurth Elektronik; Rated Voltage: 16VDC; Published Date: August 2019; Capacitance Tolerance: +/-10%; Dissipation Factor: =<3.5%; Height: 0.95mm +/-0.10mm; Mounting Technology: SMD; Size: 1210; Capacitance: 150nF
footprint WCAP-CSGP_1210_H=0.95mm
pins: 1, 2

## 885012209008
designator C?, comment 220nF, 16V
WCAP-CSGP General Purpose Ceramic Capacitors, size 1210, 220nF, +/-10%, 16VDC; Part Number: 885012209008; Isolation Resistance: >=2.3GOhm; Ceramic Type: X7R; Technical Reference: X7R1210224K016DFCT10000; ComponentLink1Description: Manufacturer; ComponentLink1URL: http://www.we-online.de; ComponentLink2Description: Datasheet; ComponentLink2URL: https://katalog.we-online.com/pbs/datasheet/885012209008.pdf; Operating Temperature: -55 to +125degC; Packaging: Tape and Reel; Publisher: Wurth Elektronik; Rated Voltage: 16VDC; Published Date: August 2019; Capacitance Tolerance: +/-10%; Dissipation Factor: =<3.5%; Height: 0.95mm +/-0.10mm; Mounting Technology: SMD; Size: 1210; Capacitance: 220nF
footprint WCAP-CSGP_1210_H=0.95mm
pins: 1, 2

## 885012209009
designator C?, comment 470nF, 16V
WCAP-CSGP General Purpose Ceramic Capacitors, size 1210, 470nF, +/-10%, 16VDC; Part Number: 885012209009; Isolation Resistance: >=1.1GOhm; Ceramic Type: X7R; Technical Reference: X7R1210474K016DFCT10000; ComponentLink1Description: Manufacturer; ComponentLink1URL: http://www.we-online.de; ComponentLink2Description: Datasheet; ComponentLink2URL: https://katalog.we-online.com/pbs/datasheet/885012209009.pdf; Operating Temperature: -55 to +125degC; Packaging: Tape and Reel; Publisher: Wurth Elektronik; Rated Voltage: 16VDC; Published Date: August 2019; Capacitance Tolerance: +/-10%; Dissipation Factor: =<3.5%; Height: 0.95mm +/-0.10mm; Mounting Technology: SMD; Size: 1210; Capacitance: 470nF
footprint WCAP-CSGP_1210_H=0.95mm
pins: 1, 2

## 885012209010
designator C?, comment 680nF, 16V
WCAP-CSGP General Purpose Ceramic Capacitors, size 1210, 680nF, +/-10%, 16VDC; Part Number: 885012209010; Isolation Resistance: >=0.7GOhm; Ceramic Type: X7R; Technical Reference: X7R1210684K016DFCT10000; ComponentLink1Description: Manufacturer; ComponentLink1URL: http://www.we-online.de; ComponentLink2Description: Datasheet; ComponentLink2URL: https://katalog.we-online.com/pbs/datasheet/885012209010.pdf; Operating Temperature: -55 to +125degC; Packaging: Tape and Reel; Publisher: Wurth Elektronik; Rated Voltage: 16VDC; Published Date: August 2019; Capacitance Tolerance: +/-10%; Dissipation Factor: =<3.5%; Height: 1.25mm +/-0.10mm; Mounting Technology: SMD; Size: 1210; Capacitance: 680nF
footprint WCAP-CSGP_1210_H=1.25mm
pins: 1, 2

## 885012209011
designator C?, comment 1uF, 16V
WCAP-CSGP General Purpose Ceramic Capacitors, size 1210, 1uF, +/-10%, 16VDC; Part Number: 885012209011; Isolation Resistance: >=0.5GOhm; Ceramic Type: X7R; Technical Reference: X7R1210105K016DFCT10000; ComponentLink1Description: Manufacturer; ComponentLink1URL: http://www.we-online.de; ComponentLink2Description: Datasheet; ComponentLink2URL: https://katalog.we-online.com/pbs/datasheet/885012209011.pdf; Operating Temperature: -55 to +125degC; Packaging: Tape and Reel; Publisher: Wurth Elektronik; Rated Voltage: 16VDC; Published Date: August 2019; Capacitance Tolerance: +/-10%; Dissipation Factor: =<3.5%; Height: 1.25mm +/-0.10mm; Mounting Technology: SMD; Size: 1210; Capacitance: 1uF
footprint WCAP-CSGP_1210_H=1.25mm
pins: 1, 2

## 885012209012
designator C?, comment 2.2uF, 16V
WCAP-CSGP General Purpose Ceramic Capacitors, size 1210, 2.2uF, +/-10%, 16VDC; Part Number: 885012209012; Isolation Resistance: >=0.2GOhm; Ceramic Type: X7R; Technical Reference: X7R1210225K016DFCT10000; ComponentLink1Description: Manufacturer; ComponentLink1URL: http://www.we-online.de; ComponentLink2Description: Datasheet; ComponentLink2URL: https://katalog.we-online.com/pbs/datasheet/885012209012.pdf; Operating Temperature: -55 to +125degC; Packaging: Tape and Reel; Publisher: Wurth Elektronik; Rated Voltage: 16VDC; Published Date: August 2019; Capacitance Tolerance: +/-10%; Dissipation Factor: =<3.5%; Height: 2mm +/-0.20mm; Mounting Technology: SMD; Size: 1210; Capacitance: 2.2uF
footprint WCAP-CSGP_1210_H=2mm
pins: 1, 2

## 885012209013
designator C?, comment 4.7uF, 16V
WCAP-CSGP General Purpose Ceramic Capacitors, size 1210, 4.7uF, +/-10%, 16VDC; Part Number: 885012209013; Isolation Resistance: >=0.1GOhm; Ceramic Type: X7R; Technical Reference: X7R1210475K016DFCT10000; ComponentLink1Description: Manufacturer; ComponentLink1URL: http://www.we-online.de; ComponentLink2Description: Datasheet; ComponentLink2URL: https://katalog.we-online.com/pbs/datasheet/885012209013.pdf; Operating Temperature: -55 to +125degC; Packaging: Tape and Reel; Publisher: Wurth Elektronik; Rated Voltage: 16VDC; Published Date: August 2019; Capacitance Tolerance: +/-10%; Dissipation Factor: =<5%; Height: 2mm +/-0.20mm; Mounting Technology: SMD; Size: 1210; Capacitance: 4.7uF
footprint WCAP-CSGP_1210_H=2mm
pins: 1, 2

## 885012209014
designator C?, comment 10uF, 16V
WCAP-CSGP General Purpose Ceramic Capacitors, size 1210, 10uF, +/-10%, 16VDC; Part Number: 885012209014; Isolation Resistance: >=0.1GOhm; Ceramic Type: X7R; Technical Reference: X7R1210106K016DFCT10000; ComponentLink1Description: Manufacturer; ComponentLink1URL: http://www.we-online.de; ComponentLink2Description: Datasheet; ComponentLink2URL: https://katalog.we-online.com/pbs/datasheet/885012209014.pdf; Operating Temperature: -55 to +125degC; Packaging: Tape and Reel; Publisher: Wurth Elektronik; Rated Voltage: 16VDC; Published Date: August 2019; Capacitance Tolerance: +/-10%; Dissipation Factor: =<5%; Height: 2mm +/-0.20mm; Mounting Technology: SMD; Size: 1210; Capacitance: 10uF
footprint WCAP-CSGP_1210_H=2mm
pins: 1, 2

## 885012209015
designator C?, comment 1nF, 25V
WCAP-CSGP General Purpose Ceramic Capacitors, size 1210, 1nF, +/-10%, 25VDC; Part Number: 885012209015; Isolation Resistance: >=10GOhm; Ceramic Type: X7R; Technical Reference: X7R1210102K025DFCT10000; ComponentLink1Description: Manufacturer; ComponentLink1URL: http://www.we-online.de; ComponentLink2Description: Datasheet; ComponentLink2URL: https://katalog.we-online.com/pbs/datasheet/885012209015.pdf; Operating Temperature: -55 to +125degC; Packaging: Tape and Reel; Publisher: Wurth Elektronik; Rated Voltage: 25VDC; Published Date: August 2019; Capacitance Tolerance: +/-10%; Dissipation Factor: =<3.5%; Height: 0.95mm +/-0.10mm; Mounting Technology: SMD; Size: 1210; Capacitance: 1nF
footprint WCAP-CSGP_1210_H=0.95mm
pins: 1, 2

## 885012209016
designator C?, comment 2.2nF, 25V
WCAP-CSGP General Purpose Ceramic Capacitors, size 1210, 2.2nF, +/-10%, 25VDC; Part Number: 885012209016; Isolation Resistance: >=10GOhm; Ceramic Type: X7R; Technical Reference: X7R1210222K025DFCT10000; ComponentLink1Description: Manufacturer; ComponentLink1URL: http://www.we-online.de; ComponentLink2Description: Datasheet; ComponentLink2URL: https://katalog.we-online.com/pbs/datasheet/885012209016.pdf; Operating Temperature: -55 to +125degC; Packaging: Tape and Reel; Publisher: Wurth Elektronik; Rated Voltage: 25VDC; Published Date: August 2019; Capacitance Tolerance: +/-10%; Dissipation Factor: =<3.5%; Height: 0.95mm +/-0.10mm; Mounting Technology: SMD; Size: 1210; Capacitance: 2.2nF
footprint WCAP-CSGP_1210_H=0.95mm
pins: 1, 2

## 885012209017
designator C?, comment 10nF, 25V
WCAP-CSGP General Purpose Ceramic Capacitors, size 1210, 10nF, +/-10%, 25VDC; Part Number: 885012209017; Isolation Resistance: >=10GOhm; Ceramic Type: X7R; Technical Reference: X7R1210103K025DFCT10000; ComponentLink1Description: Manufacturer; ComponentLink1URL: http://www.we-online.de; ComponentLink2Description: Datasheet; ComponentLink2URL: https://katalog.we-online.com/pbs/datasheet/885012209017.pdf; Operating Temperature: -55 to +125degC; Packaging: Tape and Reel; Publisher: Wurth Elektronik; Rated Voltage: 25VDC; Published Date: August 2019; Capacitance Tolerance: +/-10%; Dissipation Factor: =<3.5%; Height: 0.95mm +/-0.10mm; Mounting Technology: SMD; Size: 1210; Capacitance: 10nF
footprint WCAP-CSGP_1210_H=0.95mm
pins: 1, 2

## 885012209018
designator C?, comment 22nF, 25V
WCAP-CSGP General Purpose Ceramic Capacitors, size 1210, 22nF, +/-10%, 25VDC; Part Number: 885012209018; Isolation Resistance: >=10GOhm; Ceramic Type: X7R; Technical Reference: X7R1210223K025DFCT10000; ComponentLink1Description: Manufacturer; ComponentLink1URL: http://www.we-online.de; ComponentLink2Description: Datasheet; ComponentLink2URL: https://katalog.we-online.com/pbs/datasheet/885012209018.pdf; Operating Temperature: -55 to +125degC; Packaging: Tape and Reel; Publisher: Wurth Elektronik; Rated Voltage: 25VDC; Published Date: August 2019; Capacitance Tolerance: +/-10%; Dissipation Factor: =<3.5%; Height: 0.95mm +/-0.10mm; Mounting Technology: SMD; Size: 1210; Capacitance: 22nF
footprint WCAP-CSGP_1210_H=0.95mm
pins: 1, 2

## 885012209019
designator C?, comment 100nF, 25V
WCAP-CSGP General Purpose Ceramic Capacitors, size 1210, 100nF, +/-10%, 25VDC; Part Number: 885012209019; Isolation Resistance: >=5GOhm; Ceramic Type: X7R; Technical Reference: X7R1210104K025DFCT10000; ComponentLink1Description: Manufacturer; ComponentLink1URL: http://www.we-online.de; ComponentLink2Description: Datasheet; ComponentLink2URL: https://katalog.we-online.com/pbs/datasheet/885012209019.pdf; Operating Temperature: -55 to +125degC; Packaging: Tape and Reel; Publisher: Wurth Elektronik; Rated Voltage: 25VDC; Published Date: August 2019; Capacitance Tolerance: +/-10%; Dissipation Factor: =<3.5%; Height: 0.95mm +/-0.10mm; Mounting Technology: SMD; Size: 1210; Capacitance: 100nF
footprint WCAP-CSGP_1210_H=0.95mm
pins: 1, 2

## 885012209020
designator C?, comment 220nF, 25V
WCAP-CSGP General Purpose Ceramic Capacitors, size 1210, 220nF, +/-10%, 25VDC; Part Number: 885012209020; Isolation Resistance: >=2.3GOhm; Ceramic Type: X7R; Technical Reference: X7R1210224K025DFCT10000; ComponentLink1Description: Manufacturer; ComponentLink1URL: http://www.we-online.de; ComponentLink2Description: Datasheet; ComponentLink2URL: https://katalog.we-online.com/pbs/datasheet/885012209020.pdf; Operating Temperature: -55 to +125degC; Packaging: Tape and Reel; Publisher: Wurth Elektronik; Rated Voltage: 25VDC; Published Date: August 2019; Capacitance Tolerance: +/-10%; Dissipation Factor: =<3.5%; Height: 0.95mm +/-0.10mm; Mounting Technology: SMD; Size: 1210; Capacitance: 220nF
footprint WCAP-CSGP_1210_H=0.95mm
pins: 1, 2

## 885012209021
designator C?, comment 330nF, 25V
WCAP-CSGP General Purpose Ceramic Capacitors, size 1210, 330nF, +/-10%, 25VDC; Part Number: 885012209021; Isolation Resistance: >=1.5GOhm; Ceramic Type: X7R; Technical Reference: X7R1210334K025DFCT10000; ComponentLink1Description: Manufacturer; ComponentLink1URL: http://www.we-online.de; ComponentLink2Description: Datasheet; ComponentLink2URL: https://katalog.we-online.com/pbs/datasheet/885012209021.pdf; Operating Temperature: -55 to +125degC; Packaging: Tape and Reel; Publisher: Wurth Elektronik; Rated Voltage: 25VDC; Published Date: August 2019; Capacitance Tolerance: +/-10%; Dissipation Factor: =<3.5%; Height: 0.95mm +/-0.10mm; Mounting Technology: SMD; Size: 1210; Capacitance: 330nF
footprint WCAP-CSGP_1210_H=0.95mm
pins: 1, 2

## 885012209022
designator C?, comment 470nF, 25V
WCAP-CSGP General Purpose Ceramic Capacitors, size 1210, 470nF, +/-10%, 25VDC; Part Number: 885012209022; Isolation Resistance: >=1.1GOhm; Ceramic Type: X7R; Technical Reference: X7R1210474K025DFCT10000; ComponentLink1Description: Manufacturer; ComponentLink1URL: http://www.we-online.de; ComponentLink2Description: Datasheet; ComponentLink2URL: https://katalog.we-online.com/pbs/datasheet/885012209022.pdf; Operating Temperature: -55 to +125degC; Packaging: Tape and Reel; Publisher: Wurth Elektronik; Rated Voltage: 25VDC; Published Date: August 2019; Capacitance Tolerance: +/-10%; Dissipation Factor: =<3.5%; Height: 0.95mm +/-0.10mm; Mounting Technology: SMD; Size: 1210; Capacitance: 470nF
footprint WCAP-CSGP_1210_H=0.95mm
pins: 1, 2

## 885012209023
designator C?, comment 680nF, 25V
WCAP-CSGP General Purpose Ceramic Capacitors, size 1210, 680nF, +/-10%, 25VDC; Part Number: 885012209023; Isolation Resistance: >=0.7GOhm; Ceramic Type: X7R; Technical Reference: X7R1210684K025DFCT10000; ComponentLink1Description: Manufacturer; ComponentLink1URL: http://www.we-online.de; ComponentLink2Description: Datasheet; ComponentLink2URL: https://katalog.we-online.com/pbs/datasheet/885012209023.pdf; Operating Temperature: -55 to +125degC; Packaging: Tape and Reel; Publisher: Wurth Elektronik; Rated Voltage: 25VDC; Published Date: August 2019; Capacitance Tolerance: +/-10%; Dissipation Factor: =<3.5%; Height: 1.25mm +/-0.10mm; Mounting Technology: SMD; Size: 1210; Capacitance: 680nF
footprint WCAP-CSGP_1210_H=1.25mm
pins: 1, 2

## 885012209024
designator C?, comment 1uF, 25V
WCAP-CSGP General Purpose Ceramic Capacitors, size 1210, 1uF, +/-10%, 25VDC; Part Number: 885012209024; Isolation Resistance: >=0.5GOhm; Ceramic Type: X7R; Technical Reference: X7R1210105K025DFCT10000; ComponentLink1Description: Manufacturer; ComponentLink1URL: http://www.we-online.de; ComponentLink2Description: Datasheet; ComponentLink2URL: https://katalog.we-online.com/pbs/datasheet/885012209024.pdf; Operating Temperature: -55 to +125degC; Packaging: Tape and Reel; Publisher: Wurth Elektronik; Rated Voltage: 25VDC; Published Date: August 2019; Capacitance Tolerance: +/-10%; Dissipation Factor: =<3.5%; Height: 1.25mm +/-0.10mm; Mounting Technology: SMD; Size: 1210; Capacitance: 1uF
footprint WCAP-CSGP_1210_H=1.25mm
pins: 1, 2